# Altium schematic symbol library ECE299_PCB.SCHLIB: 20 symbols
Pins are listed as number, name and electrical type; pins without a type are passive.

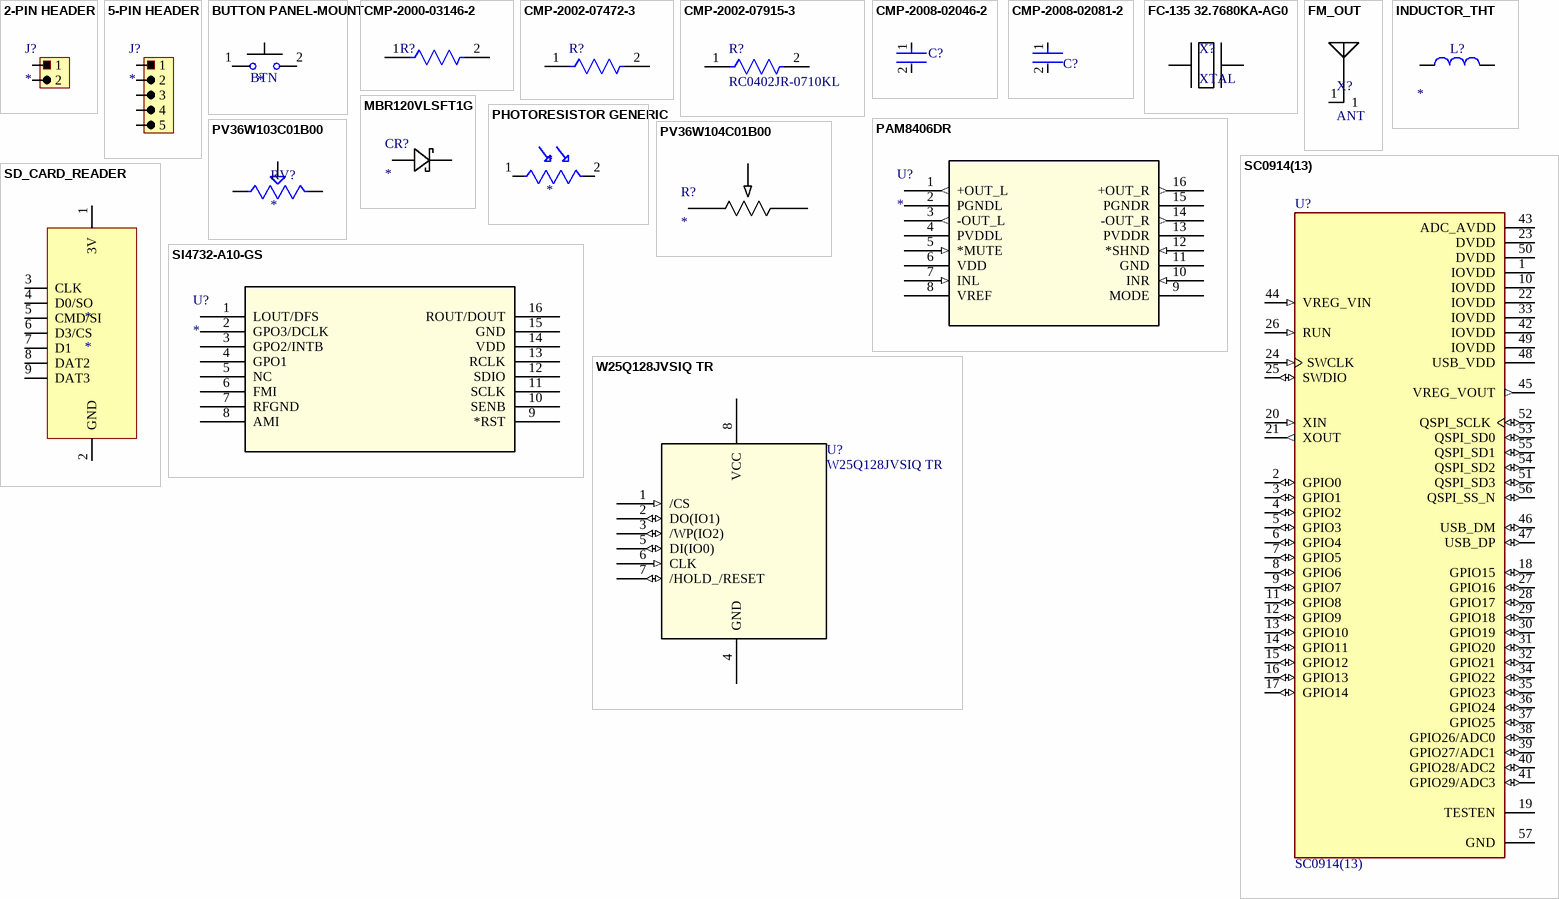
[diagram p0: symbols 2-PIN HEADER to W25Q128JVSIQ TR]

## 2-PIN HEADER
designator J?
footprint 2-pin Header (Generic) (2 THT pads for generic headers.)
pins: 1, 2

## 5-PIN HEADER
designator J?
footprint 5-pin Header (Generic) (5 THT pads for generic headers.)
pins: 1, 2, 3, 4, 5

## BUTTON PANEL-MOUNT
designator ?
footprint 2-pin Header (Generic) (2 THT pads for generic headers.)
pins: 1, 2
text: BTN

## CMP-2000-03146-2
designator R?, comment CRCW060327R4FKEA  (value not drawn)
RES Thick Film, 27.4Ω, 1%, 0.1W, 100ppm/°C, 0603; Voltage Rating (DC): 75V; Max Power Dissipation: 100mW; Resistance: 27.4R; Case Code (Metric): 1608; Length: 1.55mm; Depth: 0.85mm; Package Quantity: 10; Voltage Rating: 75V; Power Rating: 100mW; Weight: 7.1E-05oz; Max Operating Temperature: 155°C; Temperature Coefficient: 100ppm/°C; Packaging: Tape and Reel; Lead Free: Lead Free; Number of Pins: 2; Height: 0.45mm; Military Standard: Not; Features: Automotive AEC-Q200; Contact Plating: Tin; Min Operating Temperature: -55°C; Composition: Thick Film; Mount: Surface Mount; Case/Package: 0603; Case Code (Imperial): 0603; Tolerance: 1%; Width: 0.85mm; Radiation Hardening: No; Number of Terminations: 2; Termination: SMD/SMT
footprint FP-CRCW0603-e3-MFG
footprint FP-CRCW0603-e3-IPC_C
footprint FP-CRCW0603-e3-IPC_B
footprint FP-CRCW0603-e3-IPC_A
pins: 1, 2

## CMP-2002-07472-3
designator R?, comment RC0402FR-071KL  (value not drawn)
RES 1K OHM 1% 1/16W 0402; Max Power Dissipation: 63mW; Resistance: 1kR; Voltage Rating (DC): 50V; Temperature Coefficient: 100ppm/°C; Power Rating: 62.5mW; Technology: THICK FILM; Size Code: 0402; Series: RC; Length: 1mm; Case/Package: 0402; Features: Moisture Resistant; Termination: SMD/SMT; Case Code (Metric): 1005; Reach SVHC Compliant: Yes; Number of Terminations: 2; Tolerance: 1%; Lead Free: Lead Free; Military Standard: Not; Resistor Type: Thick Film; Max Operating Temperature: 155°C; RoHS Compliant: Yes; Construction: Rectangular; Voltage Rating: 50V; Packaging: Tape and Reel; Height: 0.32mm; Number of Pins: 2; Resistance Tolerance: 1%; Case Code (Imperial): 0402; Depth: 0.5mm; Min Operating Temperature: -55°C; Width: 0.5mm
footprint FP-RC0402-0_4-IPC_A
footprint FP-RC0402-0_4-IPC_B
footprint FP-RC0402-0_4-MFG
footprint FP-RC0402-0_4-IPC_C
pins: 1, 2

## CMP-2002-07915-3
designator R?, comment RC0402JR-0710KL
RES 10K OHM 5% 1/16W 0402; Max Power Dissipation: 63mW; Temperature Coefficient: 100ppm/°C; Power Rating: 62.5mW; Resistance: 10kR; Voltage Rating: 50V; Size Code: 0402; Resistance Tolerance: 5%; Packaging: Tape and Reel; Case Code (Metric): 1005; Lead Free: Lead Free; Resistor Type: Thick Film; Min Operating Temperature: -55°C; Military Standard: Not; Depth: 0.5mm; Series: RC; Case/Package: 0402; Construction: Rectangular; Number of Terminations: 2; Package Quantity: 1; Termination: SMD/SMT; Length: 0.039inch; Case Code (Imperial): 0402; Height: 0.016inch; Features: Moisture Resistant; RoHS Compliant: Yes; Max Operating Temperature: 155°C; Tolerance: 5%; Width: 0.02inch
footprint FP-RC0402-0_4-IPC_C
footprint FP-RC0402-0_4-MFG
footprint FP-RC0402-0_4-IPC_A
footprint FP-RC0402-0_4-IPC_B
footprint RC0402N_YAG
pins: 1, 2

## CMP-2008-02046-2
designator C?, comment C0402C104K8PACTU  (value not drawn)
CAP CER 0.1UF 10V X5R 0402; Manufacturer: Kemet; Material: Ceramic; Capacitance: 0.10 μF; Temperature Coefficient: 15%; Tolerance: 0.1; Value: 0.10 μF; Package: C0402-BB; Temperature: -55°C to +125°C; ComponentLink2Description: Datasheet; Temperature Characteristic: X5R; Device Class L1: Passive Components; Height: 0.55mm; Lead Free: Yes; ComponentLink2URL: https://content.kemet.com/datasheets/KEM_C1002_X7R_SMD.pdf; Device Class L2: Capacitors; Temperature Range Low: -55°C; Temperature Range High: +125°C; RoHS: TRUE; Octopart: https://octopart.com/c0402c104k8pactu-kemet-140039; Automotive: No; Mouser Description: Capacitor 100 nF 10 VDC 0402; Category: Cap; Voltage Rating: 10 V; Digikey Description: CAP CER 0.1UF 10V X5R 0402; Ipc Land Pattern Name: CAPC10050X50; Device Class L3: Ceramic Capacitors; Manufacturer Part Number: C0402C104K8PACTU
footprint FP-C0402-BB-MFG
footprint FP-C0402-BB-IPC_C
footprint FP-C0402-BB-IPC_B
footprint FP-C0402-BB-IPC_A
pins: 1, 2

## CMP-2008-02081-2
designator C?, comment C0402C105K8PACTU  (value not drawn)
CAP CER 1UF 10V X5R 0402; Dielectric Material: Ceramic; Dissipation Factor: 5%; Tolerance: 10%; Number of Pins: 2; Contact Plating: Tin; Min Operating Temperature: -55°C; Termination: SMD/SMT; Lead Free: Lead Free; Construction: Flat; Voltage Rating (DC): 10V; Mount: Surface Mount; Series: C; Thickness: 0.022inch; Width: 0.5mm; Radiation Hardening: No; Capacitance: 1uF; Dielectric: X5R; Height: 0.5mm; Voltage: 10V; Length: 1mm; Depth: 0.5mm; Max Operating Temperature: 85°C; Package Quantity: 1; Packaging: Tape and Reel; RoHS Compliant: Yes; Case Code (Imperial): 0402; Case Code (Metric): 1005; REACH SVHC: No SVHC; Voltage Rating: 10V; Case/Package: 0402
footprint FP-C0402C105K8PACTU-MFG
footprint FP-C0402C105K8PACTU-IPC_C
footprint FP-C0402C105K8PACTU-IPC_B
footprint FP-C0402C105K8PACTU-IPC_A (Footprint not found)
pins: 1, 2

## FC-135 32.7680KA-AG0
designator X?, comment XTAL
footprint FC-135 32.7680KA-AG0
pins: 1, 2

## FM_OUT
designator X?, comment ANT
footprint FM_ANTENNA_OUT (Intended for board-edge mounting)
pins: 1

## INDUCTOR_THT
designator L?
Value: *
footprint 2-pin Header (Generic) (2 THT pads for generic headers.)
pins: 1, 2

## MBR120VLSFT1G
designator CR?
No Description Available; Mfr_Name: onsemi
footprint SDO_SOD-123FL_ONS
pins: 1, 2

## PAM8406DR
designator U?
No Description Available; Mfr_Name: Diodes Inc; RefDes: RefDes; Type: Type
footprint SO-16_PAM8406_DIO
pins: 1 +OUT_L (out), 2 PGNDL (power), 3 -OUT_L (out), 4 PVDDL (power), 5 *MUTE (in), 6 VDD (power), 7 INL (in), 8 VREF (power), 9 MODE, 10 INR (in), 11 GND (power), 12 *SHND (in), 13 PVDDR (power), 14 -OUT_R (out), 15 PGNDR (power), 16 +OUT_R (out)

## PHOTORESISTOR GENERIC
designator *
Generic Photoresistor symbol for peripheral use. / Uses generic 2-Pin Header footprint.
footprint 2-pin Header (Generic) (2 THT pads for generic headers.)
pins: 1, 2

## PV36W103C01B00
designator RV?
10 kOhms 0.5W, 1/2W PC Pins Through Hole Trimmer Potentiometer Cermet 25.0 Turn Top Adjustment; MF: Bourns; MP: PV36W103C01B00; DigiKey_Part_Number: 118-PV36W103C01B00-ND; Purchase-URL: https://pricing.snapeda.com/search?q=PV36W103C01B00&ref=eda; Package: PV36W Bourns; Check_prices: https://www.snapeda.com/parts/PV36W103C01B00/Bourns/view-part/?ref=eda; Value: *; SnapEDA_Link: https://www.snapeda.com/parts/PV36W103C01B00/Bourns/view-part/?ref=snap
footprint TRIM_PV36W103C01B00
pins: 1, 2, 3

## PV36W104C01B00
designator R?
No Description Available; Mfr_Name: Bourns Electronics; Type: Trimmer Potentiometers
footprint POT_PV36W_BRN
pins: 1, 2, 3

## SC0914(13)
designator U?
ARMÂ® CortexÂ®-M0+ - Microcontroller IC 32-Bit Dual-Core 133MHz External Program Memory 56-QFN (7x7); MF: Raspberry Pi; SnapEDA_Link: https://www.snapeda.com/parts/SC0914(13)/Raspberry+Pi/view-part/?ref=snap; Package: VFQFN-56 Raspberry Pi; Value: *; MP: SC0914(13); Check_prices: https://www.snapeda.com/parts/SC0914(13)/Raspberry+Pi/view-part/?ref=eda
footprint QFN40P700X700X90-57N
pins: 1 IOVDD (power), 2 GPIO0 (io), 3 GPIO1 (io), 4 GPIO2 (io), 5 GPIO3 (io), 6 GPIO4 (io), 7 GPIO5 (io), 8 GPIO6 (io), 9 GPIO7 (io), 10 IOVDD (power), 11 GPIO8 (io), 12 GPIO9 (io), 13 GPIO10 (io), 14 GPIO11 (io), 15 GPIO12 (io), 16 GPIO13 (io), 17 GPIO14 (io), 18 GPIO15 (io), 19 TESTEN, 20 XIN (in), 21 XOUT (out), 22 IOVDD (power), 23 DVDD (power), 24 SWCLK (in), 25 SWDIO (io), 26 RUN (in), 27 GPIO16 (io), 28 GPIO17 (io), 29 GPIO18 (io), 30 GPIO19 (io), 31 GPIO20 (io), 32 GPIO21 (io), 33 IOVDD (power), 34 GPIO22 (io), 35 GPIO23 (io), 36 GPIO24 (io), 37 GPIO25 (io), 38 GPIO26/ADC0 (io), 39 GPIO27/ADC1 (io), 40 GPIO28/ADC2 (io), 41 GPIO29/ADC3 (io), 42 IOVDD (power), 43 ADC_AVDD (power), 44 VREG_VIN (in), 45 VREG_VOUT (out), 46 USB_DM (io), 47 USB_DP (io), 48 USB_VDD (power), 49 IOVDD (power), 50 DVDD (power), 51 QSPI_SD3 (io), 52 QSPI_SCLK (io), 53 QSPI_SD0 (io), 54 QSPI_SD2 (io), 55 QSPI_SD1 (io), 56 QSPI_SS_N (io), 57 GND (power)

## SD_CARD_READER
designator *
footprint 6-pin Header (Generic) (6 THT pads for generic headers. Also used for SD card reader breakout board.)
pins: 1 3V, 2 GND, 3 CLK, 4 D0/SO, 5 CMD/SI, 6 D3/CS, 7 D1, 8 DAT2, 9 DAT3

## SI4732-A10-GS
designator U?
No Description Available; Mfr_Name: Silicon Labs; RefDes: RefDes; Type: Type
footprint SOIC_A10-GS_SIL
pins: 1 LOUT/DFS, 2 GPO3/DCLK, 3 GPO2/INTB, 4 GPO1, 5 NC, 6 FMI, 7 RFGND (power), 8 AMI, 9 *RST, 10 SENB, 11 SCLK, 12 SDIO, 13 RCLK, 14 VDD (power), 15 GND (power), 16 ROUT/DOUT

## W25Q128JVSIQ TR
designator U?
No Description Available; Mfr_Name: Winbond; RefDes: RefDes; Type: Type
footprint SOIC_208MIL_WIN
pins: 1 /CS (in), 2 DO(IO1) (io), 3 /WP(IO2) (io), 4 GND (power), 5 DI(IO0) (io), 6 CLK (in), 7 /HOLD_/RESET (io), 8 VCC (power)